# EAGLE library part HT42B534 (library HT42B534)
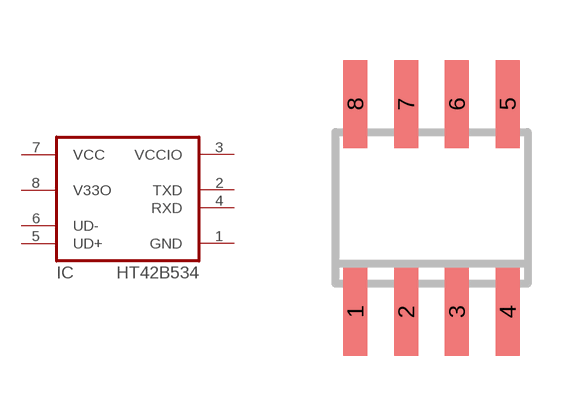
[diagram p0: symbol with the pads of SO8; footprint SO8]

Designator prefix IC

## HT42B534  [SO8]
1  GND
2  TXD
3  VCCIO
4  RXD
5  UD+
6  UD-
7  VCC
8  V33O

## Footprint SO8 (pad centres in mm)
SMALL OUTLINE INTEGRATED CIRCUIT
smd 0.6 x 2.2: 1 -1.905,-2.6; 2 -0.635,-2.6; 3 0.635,-2.6; 4 1.905,-2.6; 5 1.905,2.6; 6 0.635,2.6; 7 -0.635,2.6; 8 -1.905,2.6